# Altium integrated library Linear Technology PMIC-Switching Reg LTC1174-LTC3901.IntLib: 2647 symbols (part 110 of 310)
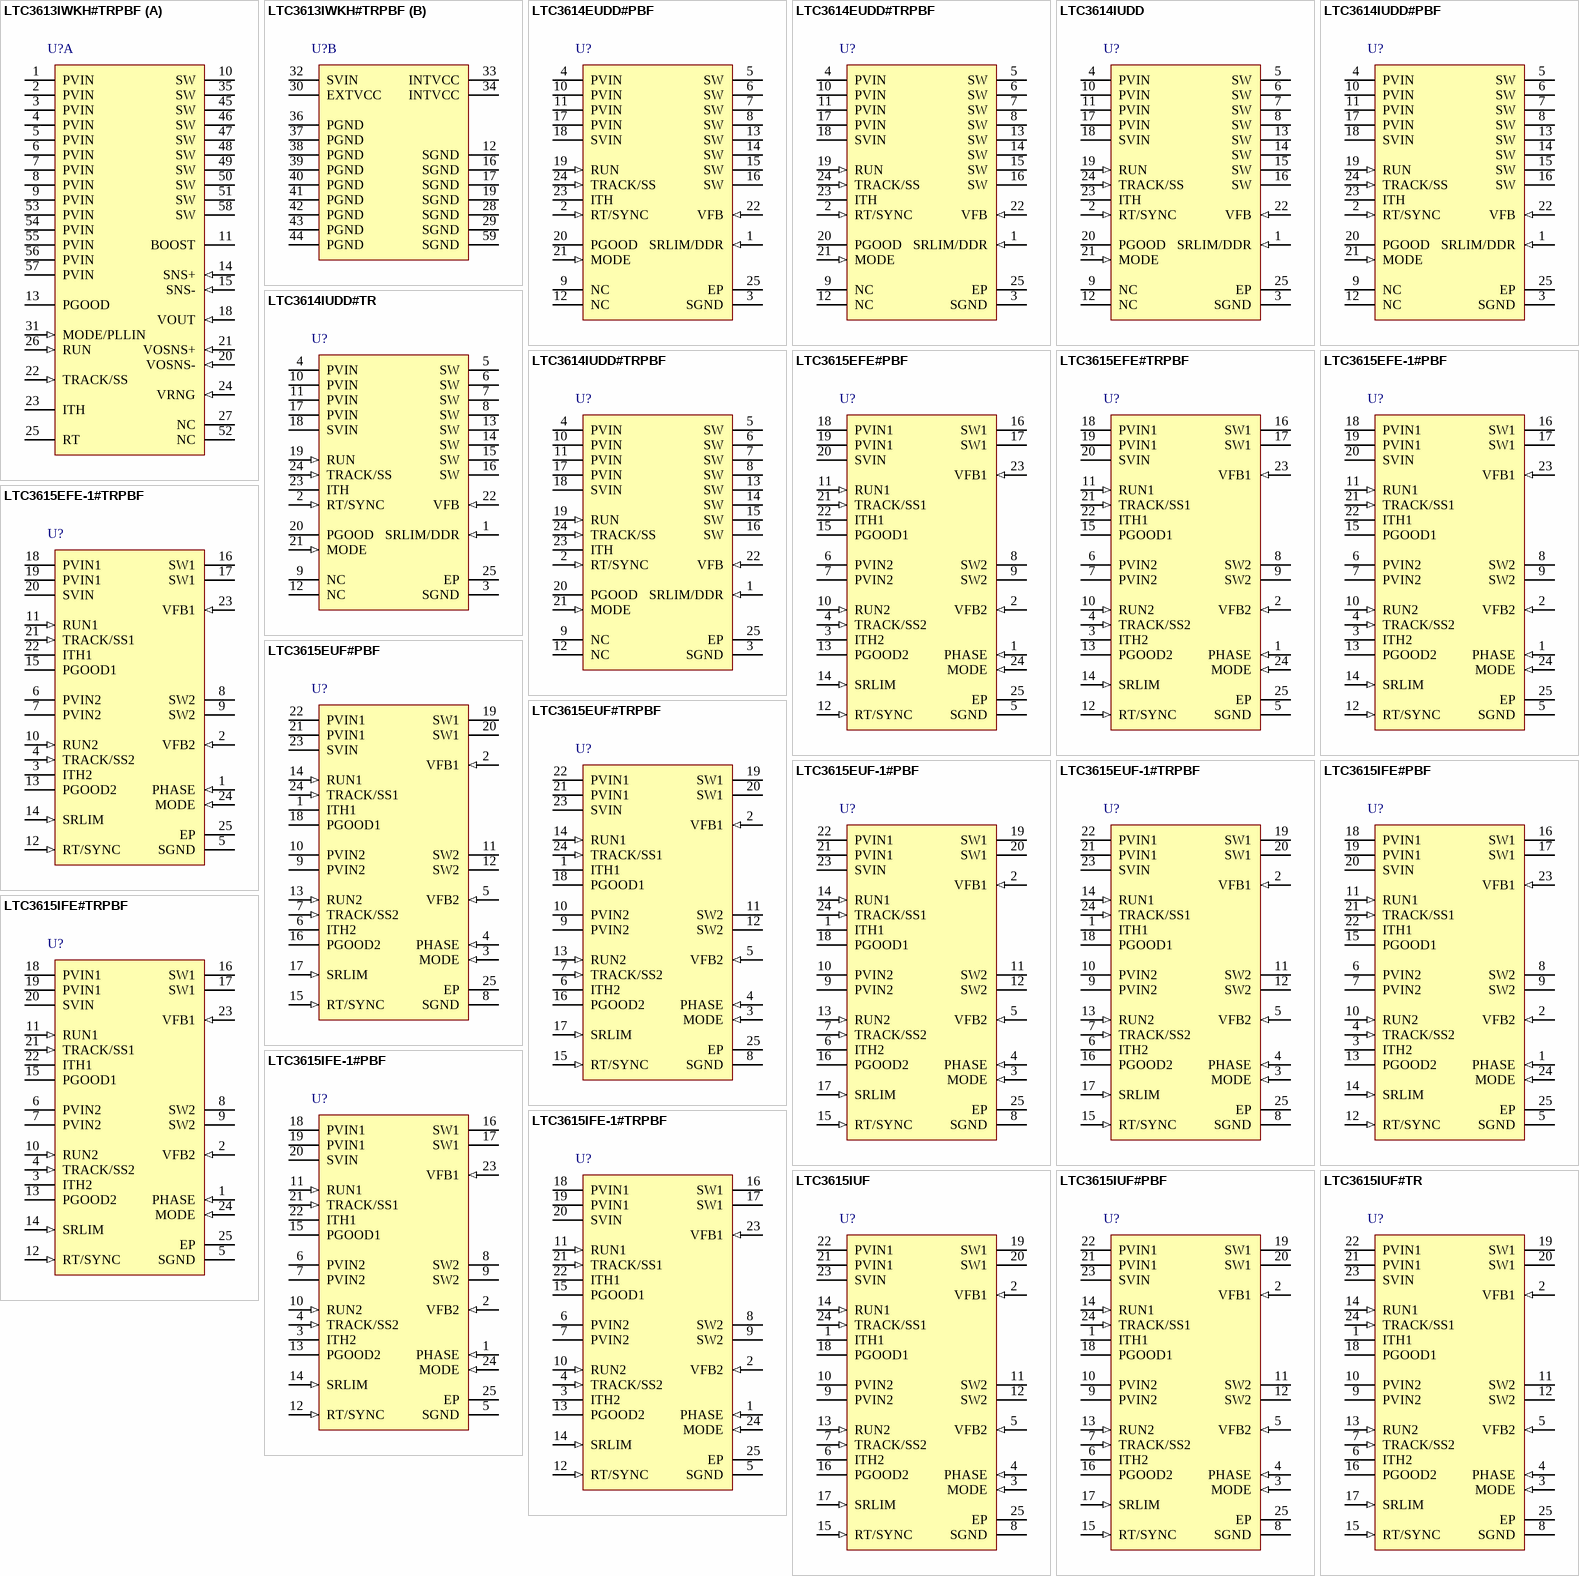
[diagram p179: symbols LTC3613IWKH#TRPBF to LTC3615IUF#TR]

## LTC3615EUF-1#TRPBF
designator U?
Dual 4 MHz, 3 A Synchronous Step-Down DC/DC Converter, 24-pin QFN (UF-24), -40 to 125 degC, Pb-Free, Tape and Reel; Manufacturer: Linear Technology; PartNumber: LTC3615EUF-1#TRPBF; Number of Outputs: 2; PackageReference: UF24; PackageDescription: 24-Pin Plastic QFN, Body 4 x 4 mm, Pitch 0.5 mm; Supplier 1: Digi-Key; Supplier Part Number 1: LTC3615EUF-1#TRPBF-ND; RoHS: TRUE; Code_JEDEC: MO-220
footprint LT-UF-24_N (QFN, 24-Leads, Body 4.1x4.1mm, Pitch 0.5mm, Thermal Pad 2.45x2.45mm, IPC Medium Density)
footprint LT-UF-24_L (QFN, 24-Leads, Body 4.1x4.1mm, Pitch 0.5mm, Thermal Pad 2.45x2.45mm, IPC High Density)
footprint LT-UF-24_M (QFN, 24-Leads, Body 4.1x4.1mm, Pitch 0.5mm, Thermal Pad 2.45x2.45mm, IPC Low Density)
pins: 1 ITH1 "Error Amplifier Compensation. Connection for external compensation from ITH to SGND. The current comparator¡¯s threshold increases with this control voltage. Tying this pin to SVIN enables AVP mode with interna(See Datasheet)", 2 VFB1 (in) "Voltage Feedback Input Pin for Channel 1. Receives the feedback voltage for channel 1 from the external resistive divider across the output.", 3 MODE (in) "Mode Selection.", 4 PHASE (in) "Phase Shift Selection. If pin is tied to SGND, the phase between SW1 and SW2 will be 0degrees (LTC3615) or 140degrees (LTC3615-1). With the PHASE pin tied to half of the SVIN voltage, 90degrees (LTC3615) or 140degrees (See Datasheet)", 5 VFB2 (in) "Voltage Feedback Input Pin for Channel 2. See VFB1.", 6 ITH2 "Error Amplifier Compensation of Channel 2. See ITH1.", 7 TRACK/SS2 (in) "Internal, External Soft-Start, External Reference Input for Channel 2. See TRACK/SS1.", 8 SGND (power) "Signal Ground. All small-signal and compensation components should connect to this ground pin which, in turn, should be connected to PGND at one point.", 9 PVIN2 (power) "Channel 2 Power Supply Input. See PVIN1.", 10 PVIN2 (power) "Channel 2 Power Supply Input. See PVIN1.", 11 SW2 (power) "Channel 2 Switching Node. See SW1.", 12 SW2 (power) "Channel 2 Switching Node. See SW1.", 13 RUN2 (in) "Enable Pin for Channel 2. See RUN1.", 14 RUN1 (in) "Enable Pin for Channel 1. Forcing RUN1 above the input threshold enables the output SW1 of channel 1. Forcing both RUNx pins to ground shuts down the LTC3615. In shutdown, all functions are disabled and the LTC3615 draws (See Datasheet)", 15 RT/SYNC (in) "Oscillator Frequency. This pin provides three modes of setting the switching frequency.", 16 PGOOD2 (oc) "Power Good Output for Channel 2. See PGOOD1.", 17 SRLIM (in) "Slew Rate Limit. Slew rate on the switch pins is programmed with the SRLIM pin", 18 PGOOD1 (oc) "Power Good Output Pin for Channel 1. The open-drain output will be pulled down to ground when the FB1 voltage of the channel is not within the power good voltage window. The PGOOD1 will also be pulled down if the channel is (See Datasheet)", 19 SW1 (power) "Channel 1 Switching Node. Connection to the external inductor. This pin connects to the drains of the internal synchronous power MOSFET switches.", 20 SW1 (power) "Channel 1 Switching Node. Connection to the external inductor. This pin connects to the drains of the internal synchronous power MOSFET switches.", 21 PVIN1 (power) "Channel 1 Power Supply Inputs. These pins connect to the source of the internal power P-channel MOSFET of channel 1. PVIN1 and PVIN2 are independent of each other. They may connect to equal or lower supplies than SVIN.", 22 PVIN1 (power) "Channel 1 Power Supply Inputs. These pins connect to the source of the internal power P-channel MOSFET of channel 1. PVIN1 and PVIN2 are independent of each other. They may connect to equal or lower supplies than SVIN.", 23 SVIN (power) "Signal Input Supply. This pin powers the internal control circuitry and is monitored by the undervoltage lockout comparator.", 24 TRACK/SS1 (in) "Internal, External Soft-Start, External Reference Input for Channel 1. The type of start-up behavior for channel 1 is programmable with the TRACK/ SS1 pin", 25 EP (power) "Power Ground. The exposed pad connects to the sources of the power N-channel MOSFETs. The PGND pin is common for both channels. The exposed pad must be soldered to the PCB."

## LTC3615IFE#PBF
designator U?
Dual 4 MHz, 3 A Synchronous Step-Down DC/DC Converter, 24-pin SOP (FE-24-EPV-AA), -40 to 125 degC, Pb-Free; Manufacturer: Linear Technology; PartNumber: LTC3615IFE#PBF; Number of Outputs: 2; PackageReference: FE-24; PackageDescription: 24-Pin Plastic TSSOP, Body 7.8 x 4.4 mm, Pitch 0.65 mm; Supplier 1: Digi-Key; Supplier Part Number 1: LTC3615IFE#PBF-ND; RoHS: TRUE
footprint LT-FE-24-EPV-AA_N (SOP, 24-Leads, Body 7.9x4.5mm, Pitch 0.65mm, Thermal Pad 2.74x3.25mm, IPC Medium Density)
footprint LT-FE-24-EPV-AA_L (SOP, 24-Leads, Body 7.9x4.5mm, Pitch 0.65mm, Thermal Pad 2.74x3.25mm, IPC High Density)
footprint LT-FE-24-EPV-AA_M (SOP, 24-Leads, Body 7.9x4.5mm, Pitch 0.65mm, Thermal Pad 2.74x3.25mm, IPC Low Density)
pins: 1 PHASE (in) "Phase Shift Selection. If pin is tied to SGND, the phase between SW1 and SW2 will be 0degrees (LTC3615) or 140degrees (LTC3615-1). With the PHASE pin tied to half of the SVIN voltage, 90degrees (LTC3615) or 140degrees (See Datasheet)", 2 VFB2 (in) "Voltage Feedback Input Pin for Channel 2. See VFB1.", 3 ITH2 "Error Amplifier Compensation of Channel 2. See ITH1.", 4 TRACK/SS2 (in) "Internal, External Soft-Start, External Reference Input for Channel 2. See TRACK/SS1.", 5 SGND (power) "Signal Ground. All small-signal and compensation components should connect to this ground pin which, in turn, should be connected to PGND at one point.", 6 PVIN2 (power) "Channel 2 Power Supply Input. See PVIN1.", 7 PVIN2 (power) "Channel 2 Power Supply Input. See PVIN1.", 8 SW2 (power) "Channel 2 Switching Node. See SW1.", 9 SW2 (power) "Channel 2 Switching Node. See SW1.", 10 RUN2 (in) "Enable Pin for Channel 2. See RUN1.", 11 RUN1 (in) "Enable Pin for Channel 1. Forcing RUN1 above the input threshold enables the output SW1 of channel 1. Forcing both RUNx pins to ground shuts down the LTC3615. In shutdown, all functions are disabled and the LTC3615 draws (See Datasheet)", 12 RT/SYNC (in) "Oscillator Frequency. This pin provides three modes of setting the switching frequency.", 13 PGOOD2 (oc) "Power Good Output for Channel 2. See PGOOD1.", 14 SRLIM (in) "Slew Rate Limit. Slew rate on the switch pins is programmed with the SRLIM pin", 15 PGOOD1 (oc) "Power Good Output Pin for Channel 1. The open-drain output will be pulled down to ground when the FB1 voltage of the channel is not within the power good voltage window. The PGOOD1 will also be pulled down if the channel is (See Datasheet)", 16 SW1 (power) "Channel 1 Switching Node. Connection to the external inductor. This pin connects to the drains of the internal synchronous power MOSFET switches.", 17 SW1 (power) "Channel 1 Switching Node. Connection to the external inductor. This pin connects to the drains of the internal synchronous power MOSFET switches.", 18 PVIN1 (power) "Channel 1 Power Supply Inputs. These pins connect to the source of the internal power P-channel MOSFET of channel 1. PVIN1 and PVIN2 are independent of each other. They may connect to equal or lower supplies than SVIN.", 19 PVIN1 (power) "Channel 1 Power Supply Inputs. These pins connect to the source of the internal power P-channel MOSFET of channel 1. PVIN1 and PVIN2 are independent of each other. They may connect to equal or lower supplies than SVIN.", 20 SVIN (power) "Signal Input Supply. This pin powers the internal control circuitry and is monitored by the undervoltage lockout comparator.", 21 TRACK/SS1 (in) "Internal, External Soft-Start, External Reference Input for Channel 1. The type of start-up behavior for channel 1 is programmable with the TRACK/ SS1 pin", 22 ITH1 "Error Amplifier Compensation. Connection for external compensation from ITH to SGND. The current comparator¡¯s threshold increases with this control voltage. Tying this pin to SVIN enables AVP mode with interna(See Datasheet)", 23 VFB1 (in) "Voltage Feedback Input Pin for Channel 1. Receives the feedback voltage for channel 1 from the external resistive divider across the output.", 24 MODE (in) "Mode Selection.", 25 EP (power) "Power Ground. The exposed pad connects to the sources of the power N-channel MOSFETs. The PGND pin is common for both channels. The exposed pad must be soldered to the PCB."

## LTC3615IFE#TRPBF
designator U?
Dual 4 MHz, 3 A Synchronous Step-Down DC/DC Converter, 24-pin SOP (FE-24-EPV-AA), -40 to 125 degC, Pb-Free, Tape and Reel; Manufacturer: Linear Technology; PartNumber: LTC3615IFE#TRPBF; Number of Outputs: 2; PackageReference: FE-24; PackageDescription: 24-Pin Plastic TSSOP, Body 7.8 x 4.4 mm, Pitch 0.65 mm; Supplier 1: Digi-Key; Supplier Part Number 1: LTC3615IFE#TRPBF-ND; RoHS: TRUE
footprint LT-FE-24-EPV-AA_N (SOP, 24-Leads, Body 7.9x4.5mm, Pitch 0.65mm, Thermal Pad 2.74x3.25mm, IPC Medium Density)
footprint LT-FE-24-EPV-AA_L (SOP, 24-Leads, Body 7.9x4.5mm, Pitch 0.65mm, Thermal Pad 2.74x3.25mm, IPC High Density)
footprint LT-FE-24-EPV-AA_M (SOP, 24-Leads, Body 7.9x4.5mm, Pitch 0.65mm, Thermal Pad 2.74x3.25mm, IPC Low Density)
pins: 1 PHASE (in) "Phase Shift Selection. If pin is tied to SGND, the phase between SW1 and SW2 will be 0degrees (LTC3615) or 140degrees (LTC3615-1). With the PHASE pin tied to half of the SVIN voltage, 90degrees (LTC3615) or 140degrees (See Datasheet)", 2 VFB2 (in) "Voltage Feedback Input Pin for Channel 2. See VFB1.", 3 ITH2 "Error Amplifier Compensation of Channel 2. See ITH1.", 4 TRACK/SS2 (in) "Internal, External Soft-Start, External Reference Input for Channel 2. See TRACK/SS1.", 5 SGND (power) "Signal Ground. All small-signal and compensation components should connect to this ground pin which, in turn, should be connected to PGND at one point.", 6 PVIN2 (power) "Channel 2 Power Supply Input. See PVIN1.", 7 PVIN2 (power) "Channel 2 Power Supply Input. See PVIN1.", 8 SW2 (power) "Channel 2 Switching Node. See SW1.", 9 SW2 (power) "Channel 2 Switching Node. See SW1.", 10 RUN2 (in) "Enable Pin for Channel 2. See RUN1.", 11 RUN1 (in) "Enable Pin for Channel 1. Forcing RUN1 above the input threshold enables the output SW1 of channel 1. Forcing both RUNx pins to ground shuts down the LTC3615. In shutdown, all functions are disabled and the LTC3615 draws (See Datasheet)", 12 RT/SYNC (in) "Oscillator Frequency. This pin provides three modes of setting the switching frequency.", 13 PGOOD2 (oc) "Power Good Output for Channel 2. See PGOOD1.", 14 SRLIM (in) "Slew Rate Limit. Slew rate on the switch pins is programmed with the SRLIM pin", 15 PGOOD1 (oc) "Power Good Output Pin for Channel 1. The open-drain output will be pulled down to ground when the FB1 voltage of the channel is not within the power good voltage window. The PGOOD1 will also be pulled down if the channel is (See Datasheet)", 16 SW1 (power) "Channel 1 Switching Node. Connection to the external inductor. This pin connects to the drains of the internal synchronous power MOSFET switches.", 17 SW1 (power) "Channel 1 Switching Node. Connection to the external inductor. This pin connects to the drains of the internal synchronous power MOSFET switches.", 18 PVIN1 (power) "Channel 1 Power Supply Inputs. These pins connect to the source of the internal power P-channel MOSFET of channel 1. PVIN1 and PVIN2 are independent of each other. They may connect to equal or lower supplies than SVIN.", 19 PVIN1 (power) "Channel 1 Power Supply Inputs. These pins connect to the source of the internal power P-channel MOSFET of channel 1. PVIN1 and PVIN2 are independent of each other. They may connect to equal or lower supplies than SVIN.", 20 SVIN (power) "Signal Input Supply. This pin powers the internal control circuitry and is monitored by the undervoltage lockout comparator.", 21 TRACK/SS1 (in) "Internal, External Soft-Start, External Reference Input for Channel 1. The type of start-up behavior for channel 1 is programmable with the TRACK/ SS1 pin", 22 ITH1 "Error Amplifier Compensation. Connection for external compensation from ITH to SGND. The current comparator¡¯s threshold increases with this control voltage. Tying this pin to SVIN enables AVP mode with interna(See Datasheet)", 23 VFB1 (in) "Voltage Feedback Input Pin for Channel 1. Receives the feedback voltage for channel 1 from the external resistive divider across the output.", 24 MODE (in) "Mode Selection.", 25 EP (power) "Power Ground. The exposed pad connects to the sources of the power N-channel MOSFETs. The PGND pin is common for both channels. The exposed pad must be soldered to the PCB."

## LTC3615IFE-1#PBF
designator U?
Dual 4 MHz, 3 A Synchronous Step-Down DC/DC Converter, 24-pin SOP (FE-24-EPV-AA), -40 to 125 degC, Pb-Free; Manufacturer: Linear Technology; PartNumber: LTC3615IFE-1#PBF; Number of Outputs: 2; PackageReference: FE-24; PackageDescription: 24-Pin Plastic TSSOP, Body 7.8 x 4.4 mm, Pitch 0.65 mm; Supplier 1: Digi-Key; Supplier Part Number 1: LTC3615IFE-1#PBF-ND; RoHS: TRUE
footprint LT-FE-24-EPV-AA_N (SOP, 24-Leads, Body 7.9x4.5mm, Pitch 0.65mm, Thermal Pad 2.74x3.25mm, IPC Medium Density)
footprint LT-FE-24-EPV-AA_L (SOP, 24-Leads, Body 7.9x4.5mm, Pitch 0.65mm, Thermal Pad 2.74x3.25mm, IPC High Density)
footprint LT-FE-24-EPV-AA_M (SOP, 24-Leads, Body 7.9x4.5mm, Pitch 0.65mm, Thermal Pad 2.74x3.25mm, IPC Low Density)
pins: 1 PHASE (in) "Phase Shift Selection. If pin is tied to SGND, the phase between SW1 and SW2 will be 0degrees (LTC3615) or 140degrees (LTC3615-1). With the PHASE pin tied to half of the SVIN voltage, 90degrees (LTC3615) or 140degrees (See Datasheet)", 2 VFB2 (in) "Voltage Feedback Input Pin for Channel 2. See VFB1.", 3 ITH2 "Error Amplifier Compensation of Channel 2. See ITH1.", 4 TRACK/SS2 (in) "Internal, External Soft-Start, External Reference Input for Channel 2. See TRACK/SS1.", 5 SGND (power) "Signal Ground. All small-signal and compensation components should connect to this ground pin which, in turn, should be connected to PGND at one point.", 6 PVIN2 (power) "Channel 2 Power Supply Input. See PVIN1.", 7 PVIN2 (power) "Channel 2 Power Supply Input. See PVIN1.", 8 SW2 (power) "Channel 2 Switching Node. See SW1.", 9 SW2 (power) "Channel 2 Switching Node. See SW1.", 10 RUN2 (in) "Enable Pin for Channel 2. See RUN1.", 11 RUN1 (in) "Enable Pin for Channel 1. Forcing RUN1 above the input threshold enables the output SW1 of channel 1. Forcing both RUNx pins to ground shuts down the LTC3615. In shutdown, all functions are disabled and the LTC3615 draws (See Datasheet)", 12 RT/SYNC (in) "Oscillator Frequency. This pin provides three modes of setting the switching frequency.", 13 PGOOD2 (oc) "Power Good Output for Channel 2. See PGOOD1.", 14 SRLIM (in) "Slew Rate Limit. Slew rate on the switch pins is programmed with the SRLIM pin", 15 PGOOD1 (oc) "Power Good Output Pin for Channel 1. The open-drain output will be pulled down to ground when the FB1 voltage of the channel is not within the power good voltage window. The PGOOD1 will also be pulled down if the channel is (See Datasheet)", 16 SW1 (power) "Channel 1 Switching Node. Connection to the external inductor. This pin connects to the drains of the internal synchronous power MOSFET switches.", 17 SW1 (power) "Channel 1 Switching Node. Connection to the external inductor. This pin connects to the drains of the internal synchronous power MOSFET switches.", 18 PVIN1 (power) "Channel 1 Power Supply Inputs. These pins connect to the source of the internal power P-channel MOSFET of channel 1. PVIN1 and PVIN2 are independent of each other. They may connect to equal or lower supplies than SVIN.", 19 PVIN1 (power) "Channel 1 Power Supply Inputs. These pins connect to the source of the internal power P-channel MOSFET of channel 1. PVIN1 and PVIN2 are independent of each other. They may connect to equal or lower supplies than SVIN.", 20 SVIN (power) "Signal Input Supply. This pin powers the internal control circuitry and is monitored by the undervoltage lockout comparator.", 21 TRACK/SS1 (in) "Internal, External Soft-Start, External Reference Input for Channel 1. The type of start-up behavior for channel 1 is programmable with the TRACK/ SS1 pin", 22 ITH1 "Error Amplifier Compensation. Connection for external compensation from ITH to SGND. The current comparator¡¯s threshold increases with this control voltage. Tying this pin to SVIN enables AVP mode with interna(See Datasheet)", 23 VFB1 (in) "Voltage Feedback Input Pin for Channel 1. Receives the feedback voltage for channel 1 from the external resistive divider across the output.", 24 MODE (in) "Mode Selection.", 25 EP (power) "Power Ground. The exposed pad connects to the sources of the power N-channel MOSFETs. The PGND pin is common for both channels. The exposed pad must be soldered to the PCB."

## LTC3615IFE-1#TRPBF
designator U?
Dual 4 MHz, 3 A Synchronous Step-Down DC/DC Converter, 24-pin SOP (FE-24-EPV-AA), -40 to 125 degC, Pb-Free, Tape and Reel; Manufacturer: Linear Technology; PartNumber: LTC3615IFE-1#TRPBF; Number of Outputs: 2; PackageReference: FE-24; PackageDescription: 24-Pin Plastic TSSOP, Body 7.8 x 4.4 mm, Pitch 0.65 mm; Supplier 1: Digi-Key; Supplier Part Number 1: LTC3615IFE-1#TRPBF-ND; RoHS: TRUE
footprint LT-FE-24-EPV-AA_N (SOP, 24-Leads, Body 7.9x4.5mm, Pitch 0.65mm, Thermal Pad 2.74x3.25mm, IPC Medium Density)
footprint LT-FE-24-EPV-AA_L (SOP, 24-Leads, Body 7.9x4.5mm, Pitch 0.65mm, Thermal Pad 2.74x3.25mm, IPC High Density)
footprint LT-FE-24-EPV-AA_M (SOP, 24-Leads, Body 7.9x4.5mm, Pitch 0.65mm, Thermal Pad 2.74x3.25mm, IPC Low Density)
pins: 1 PHASE (in) "Phase Shift Selection. If pin is tied to SGND, the phase between SW1 and SW2 will be 0degrees (LTC3615) or 140degrees (LTC3615-1). With the PHASE pin tied to half of the SVIN voltage, 90degrees (LTC3615) or 140degrees (See Datasheet)", 2 VFB2 (in) "Voltage Feedback Input Pin for Channel 2. See VFB1.", 3 ITH2 "Error Amplifier Compensation of Channel 2. See ITH1.", 4 TRACK/SS2 (in) "Internal, External Soft-Start, External Reference Input for Channel 2. See TRACK/SS1.", 5 SGND (power) "Signal Ground. All small-signal and compensation components should connect to this ground pin which, in turn, should be connected to PGND at one point.", 6 PVIN2 (power) "Channel 2 Power Supply Input. See PVIN1.", 7 PVIN2 (power) "Channel 2 Power Supply Input. See PVIN1.", 8 SW2 (power) "Channel 2 Switching Node. See SW1.", 9 SW2 (power) "Channel 2 Switching Node. See SW1.", 10 RUN2 (in) "Enable Pin for Channel 2. See RUN1.", 11 RUN1 (in) "Enable Pin for Channel 1. Forcing RUN1 above the input threshold enables the output SW1 of channel 1. Forcing both RUNx pins to ground shuts down the LTC3615. In shutdown, all functions are disabled and the LTC3615 draws (See Datasheet)", 12 RT/SYNC (in) "Oscillator Frequency. This pin provides three modes of setting the switching frequency.", 13 PGOOD2 (oc) "Power Good Output for Channel 2. See PGOOD1.", 14 SRLIM (in) "Slew Rate Limit. Slew rate on the switch pins is programmed with the SRLIM pin", 15 PGOOD1 (oc) "Power Good Output Pin for Channel 1. The open-drain output will be pulled down to ground when the FB1 voltage of the channel is not within the power good voltage window. The PGOOD1 will also be pulled down if the channel is (See Datasheet)", 16 SW1 (power) "Channel 1 Switching Node. Connection to the external inductor. This pin connects to the drains of the internal synchronous power MOSFET switches.", 17 SW1 (power) "Channel 1 Switching Node. Connection to the external inductor. This pin connects to the drains of the internal synchronous power MOSFET switches.", 18 PVIN1 (power) "Channel 1 Power Supply Inputs. These pins connect to the source of the internal power P-channel MOSFET of channel 1. PVIN1 and PVIN2 are independent of each other. They may connect to equal or lower supplies than SVIN.", 19 PVIN1 (power) "Channel 1 Power Supply Inputs. These pins connect to the source of the internal power P-channel MOSFET of channel 1. PVIN1 and PVIN2 are independent of each other. They may connect to equal or lower supplies than SVIN.", 20 SVIN (power) "Signal Input Supply. This pin powers the internal control circuitry and is monitored by the undervoltage lockout comparator.", 21 TRACK/SS1 (in) "Internal, External Soft-Start, External Reference Input for Channel 1. The type of start-up behavior for channel 1 is programmable with the TRACK/ SS1 pin", 22 ITH1 "Error Amplifier Compensation. Connection for external compensation from ITH to SGND. The current comparator¡¯s threshold increases with this control voltage. Tying this pin to SVIN enables AVP mode with interna(See Datasheet)", 23 VFB1 (in) "Voltage Feedback Input Pin for Channel 1. Receives the feedback voltage for channel 1 from the external resistive divider across the output.", 24 MODE (in) "Mode Selection.", 25 EP (power) "Power Ground. The exposed pad connects to the sources of the power N-channel MOSFETs. The PGND pin is common for both channels. The exposed pad must be soldered to the PCB."

## LTC3615IUF
designator U?
Dual 4 MHz, 3 A Synchronous Step-Down DC/DC Converter, 24-pin QFN (UF-24), -40 to 125 degC; Manufacturer: Linear Technology; PartNumber: LTC3615IUF; Number of Outputs: 2; PackageReference: UF24; PackageDescription: 24-Pin Plastic QFN, Body 4 x 4 mm, Pitch 0.5 mm; RoHS: FALSE; Code_JEDEC: MO-220
footprint LT-UF-24_N (QFN, 24-Leads, Body 4.1x4.1mm, Pitch 0.5mm, Thermal Pad 2.45x2.45mm, IPC Medium Density)
footprint LT-UF-24_L (QFN, 24-Leads, Body 4.1x4.1mm, Pitch 0.5mm, Thermal Pad 2.45x2.45mm, IPC High Density)
footprint LT-UF-24_M (QFN, 24-Leads, Body 4.1x4.1mm, Pitch 0.5mm, Thermal Pad 2.45x2.45mm, IPC Low Density)
pins: 1 ITH1 "Error Amplifier Compensation. Connection for external compensation from ITH to SGND. The current comparator¡¯s threshold increases with this control voltage. Tying this pin to SVIN enables AVP mode with interna(See Datasheet)", 2 VFB1 (in) "Voltage Feedback Input Pin for Channel 1. Receives the feedback voltage for channel 1 from the external resistive divider across the output.", 3 MODE (in) "Mode Selection.", 4 PHASE (in) "Phase Shift Selection. If pin is tied to SGND, the phase between SW1 and SW2 will be 0degrees (LTC3615) or 140degrees (LTC3615-1). With the PHASE pin tied to half of the SVIN voltage, 90degrees (LTC3615) or 140degrees (See Datasheet)", 5 VFB2 (in) "Voltage Feedback Input Pin for Channel 2. See VFB1.", 6 ITH2 "Error Amplifier Compensation of Channel 2. See ITH1.", 7 TRACK/SS2 (in) "Internal, External Soft-Start, External Reference Input for Channel 2. See TRACK/SS1.", 8 SGND (power) "Signal Ground. All small-signal and compensation components should connect to this ground pin which, in turn, should be connected to PGND at one point.", 9 PVIN2 (power) "Channel 2 Power Supply Input. See PVIN1.", 10 PVIN2 (power) "Channel 2 Power Supply Input. See PVIN1.", 11 SW2 (power) "Channel 2 Switching Node. See SW1.", 12 SW2 (power) "Channel 2 Switching Node. See SW1.", 13 RUN2 (in) "Enable Pin for Channel 2. See RUN1.", 14 RUN1 (in) "Enable Pin for Channel 1. Forcing RUN1 above the input threshold enables the output SW1 of channel 1. Forcing both RUNx pins to ground shuts down the LTC3615. In shutdown, all functions are disabled and the LTC3615 draws (See Datasheet)", 15 RT/SYNC (in) "Oscillator Frequency. This pin provides three modes of setting the switching frequency.", 16 PGOOD2 (oc) "Power Good Output for Channel 2. See PGOOD1.", 17 SRLIM (in) "Slew Rate Limit. Slew rate on the switch pins is programmed with the SRLIM pin", 18 PGOOD1 (oc) "Power Good Output Pin for Channel 1. The open-drain output will be pulled down to ground when the FB1 voltage of the channel is not within the power good voltage window. The PGOOD1 will also be pulled down if the channel is (See Datasheet)", 19 SW1 (power) "Channel 1 Switching Node. Connection to the external inductor. This pin connects to the drains of the internal synchronous power MOSFET switches.", 20 SW1 (power) "Channel 1 Switching Node. Connection to the external inductor. This pin connects to the drains of the internal synchronous power MOSFET switches.", 21 PVIN1 (power) "Channel 1 Power Supply Inputs. These pins connect to the source of the internal power P-channel MOSFET of channel 1. PVIN1 and PVIN2 are independent of each other. They may connect to equal or lower supplies than SVIN.", 22 PVIN1 (power) "Channel 1 Power Supply Inputs. These pins connect to the source of the internal power P-channel MOSFET of channel 1. PVIN1 and PVIN2 are independent of each other. They may connect to equal or lower supplies than SVIN.", 23 SVIN (power) "Signal Input Supply. This pin powers the internal control circuitry and is monitored by the undervoltage lockout comparator.", 24 TRACK/SS1 (in) "Internal, External Soft-Start, External Reference Input for Channel 1. The type of start-up behavior for channel 1 is programmable with the TRACK/ SS1 pin", 25 EP (power) "Power Ground. The exposed pad connects to the sources of the power N-channel MOSFETs. The PGND pin is common for both channels. The exposed pad must be soldered to the PCB."

## LTC3615IUF#PBF
designator U?
Dual 4 MHz, 3 A Synchronous Step-Down DC/DC Converter, 24-pin QFN (UF-24), -40 to 125 degC, Pb-Free; Manufacturer: Linear Technology; PartNumber: LTC3615IUF#PBF; Number of Outputs: 2; PackageReference: UF24; PackageDescription: 24-Pin Plastic QFN, Body 4 x 4 mm, Pitch 0.5 mm; Supplier 1: Digi-Key; Supplier Part Number 1: LTC3615IUF#PBF-ND; RoHS: TRUE; Code_JEDEC: MO-220
footprint LT-UF-24_N (QFN, 24-Leads, Body 4.1x4.1mm, Pitch 0.5mm, Thermal Pad 2.45x2.45mm, IPC Medium Density)
footprint LT-UF-24_L (QFN, 24-Leads, Body 4.1x4.1mm, Pitch 0.5mm, Thermal Pad 2.45x2.45mm, IPC High Density)
footprint LT-UF-24_M (QFN, 24-Leads, Body 4.1x4.1mm, Pitch 0.5mm, Thermal Pad 2.45x2.45mm, IPC Low Density)
pins: 1 ITH1 "Error Amplifier Compensation. Connection for external compensation from ITH to SGND. The current comparator¡¯s threshold increases with this control voltage. Tying this pin to SVIN enables AVP mode with interna(See Datasheet)", 2 VFB1 (in) "Voltage Feedback Input Pin for Channel 1. Receives the feedback voltage for channel 1 from the external resistive divider across the output.", 3 MODE (in) "Mode Selection.", 4 PHASE (in) "Phase Shift Selection. If pin is tied to SGND, the phase between SW1 and SW2 will be 0degrees (LTC3615) or 140degrees (LTC3615-1). With the PHASE pin tied to half of the SVIN voltage, 90degrees (LTC3615) or 140degrees (See Datasheet)", 5 VFB2 (in) "Voltage Feedback Input Pin for Channel 2. See VFB1.", 6 ITH2 "Error Amplifier Compensation of Channel 2. See ITH1.", 7 TRACK/SS2 (in) "Internal, External Soft-Start, External Reference Input for Channel 2. See TRACK/SS1.", 8 SGND (power) "Signal Ground. All small-signal and compensation components should connect to this ground pin which, in turn, should be connected to PGND at one point.", 9 PVIN2 (power) "Channel 2 Power Supply Input. See PVIN1.", 10 PVIN2 (power) "Channel 2 Power Supply Input. See PVIN1.", 11 SW2 (power) "Channel 2 Switching Node. See SW1.", 12 SW2 (power) "Channel 2 Switching Node. See SW1.", 13 RUN2 (in) "Enable Pin for Channel 2. See RUN1.", 14 RUN1 (in) "Enable Pin for Channel 1. Forcing RUN1 above the input threshold enables the output SW1 of channel 1. Forcing both RUNx pins to ground shuts down the LTC3615. In shutdown, all functions are disabled and the LTC3615 draws (See Datasheet)", 15 RT/SYNC (in) "Oscillator Frequency. This pin provides three modes of setting the switching frequency.", 16 PGOOD2 (oc) "Power Good Output for Channel 2. See PGOOD1.", 17 SRLIM (in) "Slew Rate Limit. Slew rate on the switch pins is programmed with the SRLIM pin", 18 PGOOD1 (oc) "Power Good Output Pin for Channel 1. The open-drain output will be pulled down to ground when the FB1 voltage of the channel is not within the power good voltage window. The PGOOD1 will also be pulled down if the channel is (See Datasheet)", 19 SW1 (power) "Channel 1 Switching Node. Connection to the external inductor. This pin connects to the drains of the internal synchronous power MOSFET switches.", 20 SW1 (power) "Channel 1 Switching Node. Connection to the external inductor. This pin connects to the drains of the internal synchronous power MOSFET switches.", 21 PVIN1 (power) "Channel 1 Power Supply Inputs. These pins connect to the source of the internal power P-channel MOSFET of channel 1. PVIN1 and PVIN2 are independent of each other. They may connect to equal or lower supplies than SVIN.", 22 PVIN1 (power) "Channel 1 Power Supply Inputs. These pins connect to the source of the internal power P-channel MOSFET of channel 1. PVIN1 and PVIN2 are independent of each other. They may connect to equal or lower supplies than SVIN.", 23 SVIN (power) "Signal Input Supply. This pin powers the internal control circuitry and is monitored by the undervoltage lockout comparator.", 24 TRACK/SS1 (in) "Internal, External Soft-Start, External Reference Input for Channel 1. The type of start-up behavior for channel 1 is programmable with the TRACK/ SS1 pin", 25 EP (power) "Power Ground. The exposed pad connects to the sources of the power N-channel MOSFETs. The PGND pin is common for both channels. The exposed pad must be soldered to the PCB."

## LTC3615IUF#TR
designator U?
Dual 4 MHz, 3 A Synchronous Step-Down DC/DC Converter, 24-pin QFN (UF-24), -40 to 125 degC, Tape and Reel; Manufacturer: Linear Technology; PartNumber: LTC3615IUF#TR; Number of Outputs: 2; PackageReference: UF24; PackageDescription: 24-Pin Plastic QFN, Body 4 x 4 mm, Pitch 0.5 mm; RoHS: FALSE; Code_JEDEC: MO-220
footprint LT-UF-24_N (QFN, 24-Leads, Body 4.1x4.1mm, Pitch 0.5mm, Thermal Pad 2.45x2.45mm, IPC Medium Density)
footprint LT-UF-24_L (QFN, 24-Leads, Body 4.1x4.1mm, Pitch 0.5mm, Thermal Pad 2.45x2.45mm, IPC High Density)
footprint LT-UF-24_M (QFN, 24-Leads, Body 4.1x4.1mm, Pitch 0.5mm, Thermal Pad 2.45x2.45mm, IPC Low Density)
pins: 1 ITH1 "Error Amplifier Compensation. Connection for external compensation from ITH to SGND. The current comparator¡¯s threshold increases with this control voltage. Tying this pin to SVIN enables AVP mode with interna(See Datasheet)", 2 VFB1 (in) "Voltage Feedback Input Pin for Channel 1. Receives the feedback voltage for channel 1 from the external resistive divider across the output.", 3 MODE (in) "Mode Selection.", 4 PHASE (in) "Phase Shift Selection. If pin is tied to SGND, the phase between SW1 and SW2 will be 0degrees (LTC3615) or 140degrees (LTC3615-1). With the PHASE pin tied to half of the SVIN voltage, 90degrees (LTC3615) or 140degrees (See Datasheet)", 5 VFB2 (in) "Voltage Feedback Input Pin for Channel 2. See VFB1.", 6 ITH2 "Error Amplifier Compensation of Channel 2. See ITH1.", 7 TRACK/SS2 (in) "Internal, External Soft-Start, External Reference Input for Channel 2. See TRACK/SS1.", 8 SGND (power) "Signal Ground. All small-signal and compensation components should connect to this ground pin which, in turn, should be connected to PGND at one point.", 9 PVIN2 (power) "Channel 2 Power Supply Input. See PVIN1.", 10 PVIN2 (power) "Channel 2 Power Supply Input. See PVIN1.", 11 SW2 (power) "Channel 2 Switching Node. See SW1.", 12 SW2 (power) "Channel 2 Switching Node. See SW1.", 13 RUN2 (in) "Enable Pin for Channel 2. See RUN1.", 14 RUN1 (in) "Enable Pin for Channel 1. Forcing RUN1 above the input threshold enables the output SW1 of channel 1. Forcing both RUNx pins to ground shuts down the LTC3615. In shutdown, all functions are disabled and the LTC3615 draws (See Datasheet)", 15 RT/SYNC (in) "Oscillator Frequency. This pin provides three modes of setting the switching frequency.", 16 PGOOD2 (oc) "Power Good Output for Channel 2. See PGOOD1.", 17 SRLIM (in) "Slew Rate Limit. Slew rate on the switch pins is programmed with the SRLIM pin", 18 PGOOD1 (oc) "Power Good Output Pin for Channel 1. The open-drain output will be pulled down to ground when the FB1 voltage of the channel is not within the power good voltage window. The PGOOD1 will also be pulled down if the channel is (See Datasheet)", 19 SW1 (power) "Channel 1 Switching Node. Connection to the external inductor. This pin connects to the drains of the internal synchronous power MOSFET switches.", 20 SW1 (power) "Channel 1 Switching Node. Connection to the external inductor. This pin connects to the drains of the internal synchronous power MOSFET switches.", 21 PVIN1 (power) "Channel 1 Power Supply Inputs. These pins connect to the source of the internal power P-channel MOSFET of channel 1. PVIN1 and PVIN2 are independent of each other. They may connect to equal or lower supplies than SVIN.", 22 PVIN1 (power) "Channel 1 Power Supply Inputs. These pins connect to the source of the internal power P-channel MOSFET of channel 1. PVIN1 and PVIN2 are independent of each other. They may connect to equal or lower supplies than SVIN.", 23 SVIN (power) "Signal Input Supply. This pin powers the internal control circuitry and is monitored by the undervoltage lockout comparator.", 24 TRACK/SS1 (in) "Internal, External Soft-Start, External Reference Input for Channel 1. The type of start-up behavior for channel 1 is programmable with the TRACK/ SS1 pin", 25 EP (power) "Power Ground. The exposed pad connects to the sources of the power N-channel MOSFETs. The PGND pin is common for both channels. The exposed pad must be soldered to the PCB."

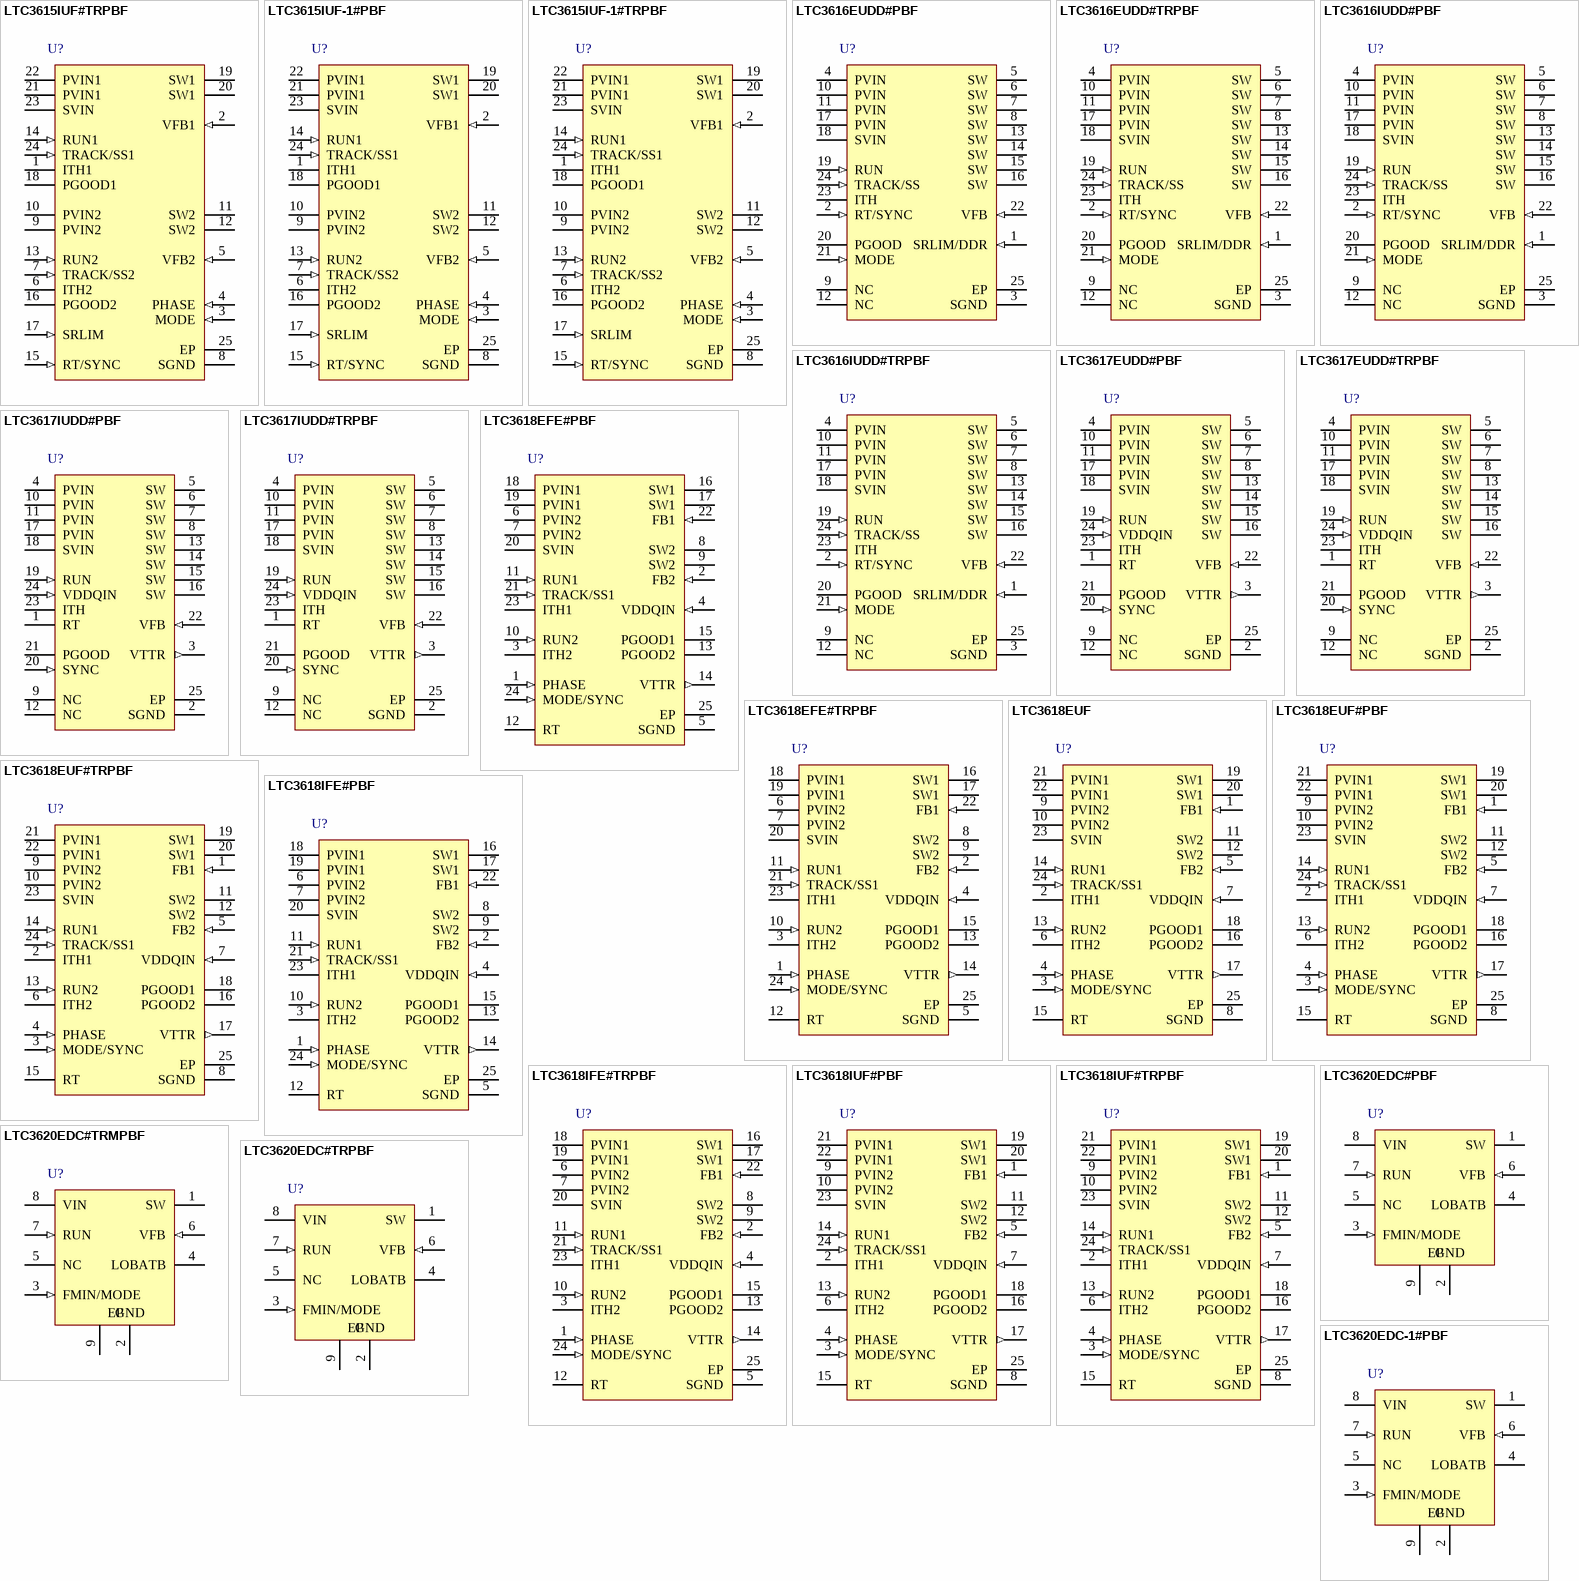
[diagram p40: symbols LTC3615IUF#TRPBF to LTC3620EDC-1#PBF]

## LTC3615IUF#TRPBF
designator U?
Dual 4 MHz, 3 A Synchronous Step-Down DC/DC Converter, 24-pin QFN (UF-24), -40 to 125 degC, Pb-Free, Tape and Reel; Manufacturer: Linear Technology; PartNumber: LTC3615IUF#TRPBF; Number of Outputs: 2; PackageReference: UF24; PackageDescription: 24-Pin Plastic QFN, Body 4 x 4 mm, Pitch 0.5 mm; Supplier 1: Digi-Key; Supplier Part Number 1: LTC3615IUF#TRPBF-ND; RoHS: TRUE; Code_JEDEC: MO-220
footprint LT-UF-24_N (QFN, 24-Leads, Body 4.1x4.1mm, Pitch 0.5mm, Thermal Pad 2.45x2.45mm, IPC Medium Density)
footprint LT-UF-24_L (QFN, 24-Leads, Body 4.1x4.1mm, Pitch 0.5mm, Thermal Pad 2.45x2.45mm, IPC High Density)
footprint LT-UF-24_M (QFN, 24-Leads, Body 4.1x4.1mm, Pitch 0.5mm, Thermal Pad 2.45x2.45mm, IPC Low Density)
pins: 1 ITH1 "Error Amplifier Compensation. Connection for external compensation from ITH to SGND. The current comparator¡¯s threshold increases with this control voltage. Tying this pin to SVIN enables AVP mode with interna(See Datasheet)", 2 VFB1 (in) "Voltage Feedback Input Pin for Channel 1. Receives the feedback voltage for channel 1 from the external resistive divider across the output.", 3 MODE (in) "Mode Selection.", 4 PHASE (in) "Phase Shift Selection. If pin is tied to SGND, the phase between SW1 and SW2 will be 0degrees (LTC3615) or 140degrees (LTC3615-1). With the PHASE pin tied to half of the SVIN voltage, 90degrees (LTC3615) or 140degrees (See Datasheet)", 5 VFB2 (in) "Voltage Feedback Input Pin for Channel 2. See VFB1.", 6 ITH2 "Error Amplifier Compensation of Channel 2. See ITH1.", 7 TRACK/SS2 (in) "Internal, External Soft-Start, External Reference Input for Channel 2. See TRACK/SS1.", 8 SGND (power) "Signal Ground. All small-signal and compensation components should connect to this ground pin which, in turn, should be connected to PGND at one point.", 9 PVIN2 (power) "Channel 2 Power Supply Input. See PVIN1.", 10 PVIN2 (power) "Channel 2 Power Supply Input. See PVIN1.", 11 SW2 (power) "Channel 2 Switching Node. See SW1.", 12 SW2 (power) "Channel 2 Switching Node. See SW1.", 13 RUN2 (in) "Enable Pin for Channel 2. See RUN1.", 14 RUN1 (in) "Enable Pin for Channel 1. Forcing RUN1 above the input threshold enables the output SW1 of channel 1. Forcing both RUNx pins to ground shuts down the LTC3615. In shutdown, all functions are disabled and the LTC3615 draws (See Datasheet)", 15 RT/SYNC (in) "Oscillator Frequency. This pin provides three modes of setting the switching frequency.", 16 PGOOD2 (oc) "Power Good Output for Channel 2. See PGOOD1.", 17 SRLIM (in) "Slew Rate Limit. Slew rate on the switch pins is programmed with the SRLIM pin", 18 PGOOD1 (oc) "Power Good Output Pin for Channel 1. The open-drain output will be pulled down to ground when the FB1 voltage of the channel is not within the power good voltage window. The PGOOD1 will also be pulled down if the channel is (See Datasheet)", 19 SW1 (power) "Channel 1 Switching Node. Connection to the external inductor. This pin connects to the drains of the internal synchronous power MOSFET switches.", 20 SW1 (power) "Channel 1 Switching Node. Connection to the external inductor. This pin connects to the drains of the internal synchronous power MOSFET switches.", 21 PVIN1 (power) "Channel 1 Power Supply Inputs. These pins connect to the source of the internal power P-channel MOSFET of channel 1. PVIN1 and PVIN2 are independent of each other. They may connect to equal or lower supplies than SVIN.", 22 PVIN1 (power) "Channel 1 Power Supply Inputs. These pins connect to the source of the internal power P-channel MOSFET of channel 1. PVIN1 and PVIN2 are independent of each other. They may connect to equal or lower supplies than SVIN.", 23 SVIN (power) "Signal Input Supply. This pin powers the internal control circuitry and is monitored by the undervoltage lockout comparator.", 24 TRACK/SS1 (in) "Internal, External Soft-Start, External Reference Input for Channel 1. The type of start-up behavior for channel 1 is programmable with the TRACK/ SS1 pin", 25 EP (power) "Power Ground. The exposed pad connects to the sources of the power N-channel MOSFETs. The PGND pin is common for both channels. The exposed pad must be soldered to the PCB."

## LTC3615IUF-1#PBF
designator U?
Dual 4 MHz, 3 A Synchronous Step-Down DC/DC Converter, 24-pin QFN (UF-24), -40 to 125 degC, Pb-Free; Manufacturer: Linear Technology; PartNumber: LTC3615IUF-1#PBF; Number of Outputs: 2; PackageReference: UF24; PackageDescription: 24-Pin Plastic QFN, Body 4 x 4 mm, Pitch 0.5 mm; Supplier 1: Digi-Key; Supplier Part Number 1: LTC3615IUF-1#PBF-ND; RoHS: TRUE; Code_JEDEC: MO-220
footprint LT-UF-24_N (QFN, 24-Leads, Body 4.1x4.1mm, Pitch 0.5mm, Thermal Pad 2.45x2.45mm, IPC Medium Density)
footprint LT-UF-24_L (QFN, 24-Leads, Body 4.1x4.1mm, Pitch 0.5mm, Thermal Pad 2.45x2.45mm, IPC High Density)
footprint LT-UF-24_M (QFN, 24-Leads, Body 4.1x4.1mm, Pitch 0.5mm, Thermal Pad 2.45x2.45mm, IPC Low Density)
pins: 1 ITH1 "Error Amplifier Compensation. Connection for external compensation from ITH to SGND. The current comparator¡¯s threshold increases with this control voltage. Tying this pin to SVIN enables AVP mode with interna(See Datasheet)", 2 VFB1 (in) "Voltage Feedback Input Pin for Channel 1. Receives the feedback voltage for channel 1 from the external resistive divider across the output.", 3 MODE (in) "Mode Selection.", 4 PHASE (in) "Phase Shift Selection. If pin is tied to SGND, the phase between SW1 and SW2 will be 0degrees (LTC3615) or 140degrees (LTC3615-1). With the PHASE pin tied to half of the SVIN voltage, 90degrees (LTC3615) or 140degrees (See Datasheet)", 5 VFB2 (in) "Voltage Feedback Input Pin for Channel 2. See VFB1.", 6 ITH2 "Error Amplifier Compensation of Channel 2. See ITH1.", 7 TRACK/SS2 (in) "Internal, External Soft-Start, External Reference Input for Channel 2. See TRACK/SS1.", 8 SGND (power) "Signal Ground. All small-signal and compensation components should connect to this ground pin which, in turn, should be connected to PGND at one point.", 9 PVIN2 (power) "Channel 2 Power Supply Input. See PVIN1.", 10 PVIN2 (power) "Channel 2 Power Supply Input. See PVIN1.", 11 SW2 (power) "Channel 2 Switching Node. See SW1.", 12 SW2 (power) "Channel 2 Switching Node. See SW1.", 13 RUN2 (in) "Enable Pin for Channel 2. See RUN1.", 14 RUN1 (in) "Enable Pin for Channel 1. Forcing RUN1 above the input threshold enables the output SW1 of channel 1. Forcing both RUNx pins to ground shuts down the LTC3615. In shutdown, all functions are disabled and the LTC3615 draws (See Datasheet)", 15 RT/SYNC (in) "Oscillator Frequency. This pin provides three modes of setting the switching frequency.", 16 PGOOD2 (oc) "Power Good Output for Channel 2. See PGOOD1.", 17 SRLIM (in) "Slew Rate Limit. Slew rate on the switch pins is programmed with the SRLIM pin", 18 PGOOD1 (oc) "Power Good Output Pin for Channel 1. The open-drain output will be pulled down to ground when the FB1 voltage of the channel is not within the power good voltage window. The PGOOD1 will also be pulled down if the channel is (See Datasheet)", 19 SW1 (power) "Channel 1 Switching Node. Connection to the external inductor. This pin connects to the drains of the internal synchronous power MOSFET switches.", 20 SW1 (power) "Channel 1 Switching Node. Connection to the external inductor. This pin connects to the drains of the internal synchronous power MOSFET switches.", 21 PVIN1 (power) "Channel 1 Power Supply Inputs. These pins connect to the source of the internal power P-channel MOSFET of channel 1. PVIN1 and PVIN2 are independent of each other. They may connect to equal or lower supplies than SVIN.", 22 PVIN1 (power) "Channel 1 Power Supply Inputs. These pins connect to the source of the internal power P-channel MOSFET of channel 1. PVIN1 and PVIN2 are independent of each other. They may connect to equal or lower supplies than SVIN.", 23 SVIN (power) "Signal Input Supply. This pin powers the internal control circuitry and is monitored by the undervoltage lockout comparator.", 24 TRACK/SS1 (in) "Internal, External Soft-Start, External Reference Input for Channel 1. The type of start-up behavior for channel 1 is programmable with the TRACK/ SS1 pin", 25 EP (power) "Power Ground. The exposed pad connects to the sources of the power N-channel MOSFETs. The PGND pin is common for both channels. The exposed pad must be soldered to the PCB."

## LTC3615IUF-1#TRPBF
designator U?
Dual 4 MHz, 3 A Synchronous Step-Down DC/DC Converter, 24-pin QFN (UF-24), -40 to 125 degC, Pb-Free, Tape and Reel; Manufacturer: Linear Technology; PartNumber: LTC3615IUF-1#TRPBF; Number of Outputs: 2; PackageReference: UF24; PackageDescription: 24-Pin Plastic QFN, Body 4 x 4 mm, Pitch 0.5 mm; Supplier 1: Digi-Key; Supplier Part Number 1: LTC3615IUF-1#TRPBF-ND; RoHS: TRUE; Code_JEDEC: MO-220
footprint LT-UF-24_N (QFN, 24-Leads, Body 4.1x4.1mm, Pitch 0.5mm, Thermal Pad 2.45x2.45mm, IPC Medium Density)
footprint LT-UF-24_L (QFN, 24-Leads, Body 4.1x4.1mm, Pitch 0.5mm, Thermal Pad 2.45x2.45mm, IPC High Density)
footprint LT-UF-24_M (QFN, 24-Leads, Body 4.1x4.1mm, Pitch 0.5mm, Thermal Pad 2.45x2.45mm, IPC Low Density)
pins: 1 ITH1 "Error Amplifier Compensation. Connection for external compensation from ITH to SGND. The current comparator¡¯s threshold increases with this control voltage. Tying this pin to SVIN enables AVP mode with interna(See Datasheet)", 2 VFB1 (in) "Voltage Feedback Input Pin for Channel 1. Receives the feedback voltage for channel 1 from the external resistive divider across the output.", 3 MODE (in) "Mode Selection.", 4 PHASE (in) "Phase Shift Selection. If pin is tied to SGND, the phase between SW1 and SW2 will be 0degrees (LTC3615) or 140degrees (LTC3615-1). With the PHASE pin tied to half of the SVIN voltage, 90degrees (LTC3615) or 140degrees (See Datasheet)", 5 VFB2 (in) "Voltage Feedback Input Pin for Channel 2. See VFB1.", 6 ITH2 "Error Amplifier Compensation of Channel 2. See ITH1.", 7 TRACK/SS2 (in) "Internal, External Soft-Start, External Reference Input for Channel 2. See TRACK/SS1.", 8 SGND (power) "Signal Ground. All small-signal and compensation components should connect to this ground pin which, in turn, should be connected to PGND at one point.", 9 PVIN2 (power) "Channel 2 Power Supply Input. See PVIN1.", 10 PVIN2 (power) "Channel 2 Power Supply Input. See PVIN1.", 11 SW2 (power) "Channel 2 Switching Node. See SW1.", 12 SW2 (power) "Channel 2 Switching Node. See SW1.", 13 RUN2 (in) "Enable Pin for Channel 2. See RUN1.", 14 RUN1 (in) "Enable Pin for Channel 1. Forcing RUN1 above the input threshold enables the output SW1 of channel 1. Forcing both RUNx pins to ground shuts down the LTC3615. In shutdown, all functions are disabled and the LTC3615 draws (See Datasheet)", 15 RT/SYNC (in) "Oscillator Frequency. This pin provides three modes of setting the switching frequency.", 16 PGOOD2 (oc) "Power Good Output for Channel 2. See PGOOD1.", 17 SRLIM (in) "Slew Rate Limit. Slew rate on the switch pins is programmed with the SRLIM pin", 18 PGOOD1 (oc) "Power Good Output Pin for Channel 1. The open-drain output will be pulled down to ground when the FB1 voltage of the channel is not within the power good voltage window. The PGOOD1 will also be pulled down if the channel is (See Datasheet)", 19 SW1 (power) "Channel 1 Switching Node. Connection to the external inductor. This pin connects to the drains of the internal synchronous power MOSFET switches.", 20 SW1 (power) "Channel 1 Switching Node. Connection to the external inductor. This pin connects to the drains of the internal synchronous power MOSFET switches.", 21 PVIN1 (power) "Channel 1 Power Supply Inputs. These pins connect to the source of the internal power P-channel MOSFET of channel 1. PVIN1 and PVIN2 are independent of each other. They may connect to equal or lower supplies than SVIN.", 22 PVIN1 (power) "Channel 1 Power Supply Inputs. These pins connect to the source of the internal power P-channel MOSFET of channel 1. PVIN1 and PVIN2 are independent of each other. They may connect to equal or lower supplies than SVIN.", 23 SVIN (power) "Signal Input Supply. This pin powers the internal control circuitry and is monitored by the undervoltage lockout comparator.", 24 TRACK/SS1 (in) "Internal, External Soft-Start, External Reference Input for Channel 1. The type of start-up behavior for channel 1 is programmable with the TRACK/ SS1 pin", 25 EP (power) "Power Ground. The exposed pad connects to the sources of the power N-channel MOSFETs. The PGND pin is common for both channels. The exposed pad must be soldered to the PCB."